# Altium schematic symbol library ECS-2520MV-130-BN-TR.SchLib: 1 symbol
Pins are listed as number, name and electrical type; pins without a type are passive.

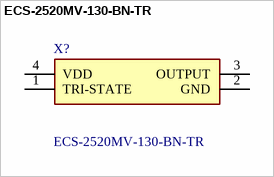
[diagram p0: symbol ECS-2520MV-130-BN-TR]

## ECS-2520MV-130-BN-TR
designator X?
Standard Clock Oscillators XO (Standard),13MHz,Standby (Power Down),CMOS, Multi-Volt,1.6 V 3.6 V,+/-50ppm,-40 C 85 C,6mA,Surface Mount,4-SMD, No Lead,(2.50mm x 2.00mm),(0.80mm); Manufacturer_Name: ECS; Geometry.Height: 0.9mm; Mouser Part Number: 520-S2520MV130BNTR; Mouser Price/Stock: https://www.mouser.co.uk/ProductDetail/ECS/ECS-2520MV-130-BN-TR?qs=zW32dvEIR3txl7djIFQDkw%3D%3D; Manufacturer_Part_Number: ECS-2520MV-130-BN-TR; Datasheet Link: https://ecsxtal.com/store/pdf/ECS-2520MV.pdf
footprint ECS2520MV130BNTR
pins: 1 TRI-STATE, 2 GND, 3 OUTPUT, 4 VDD